# Altium schematic symbol library ElectroMechanical.SchLib: 3 symbols
Pins are listed as number, name and electrical type; pins without a type are passive.

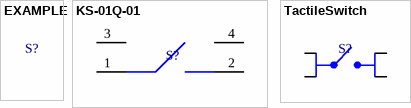
[diagram p0: symbols EXAMPLE to TactileSwitch]

## EXAMPLE
designator S?
ComponentLink1Description: Digikey

## KS-01Q-01
designator S?
ComponentLink1Description: Digikey; ComponentLink1URL: https://www.digikey.com/product-detail/en/e-switch/KS-01Q-01/EG4791-ND/2116270
footprint KS-01Q-01
pins: 1, 2, 3, 4

## TactileSwitch
designator S?  (value not drawn)
Generic 6mm Through Hole Tactile Switch; Current: 0.05A; MaxVoltage: 12V; Pole: 1; Name: TactileSwitch; Mounting: TH; ComponentLink1Description: Digikey; ComponentLink1URL: https://www.digikey.com/en/products/detail/c-k/PTS645SH95-2-LFS/1146763
footprint 6mmTactileSwitch_ThroughHole
pins: 1, 2, 3, 4